# Altium integrated library Linear Technology Power Management Hot Swap Controllers.IntLib: 992 symbols (part 11 of 93)
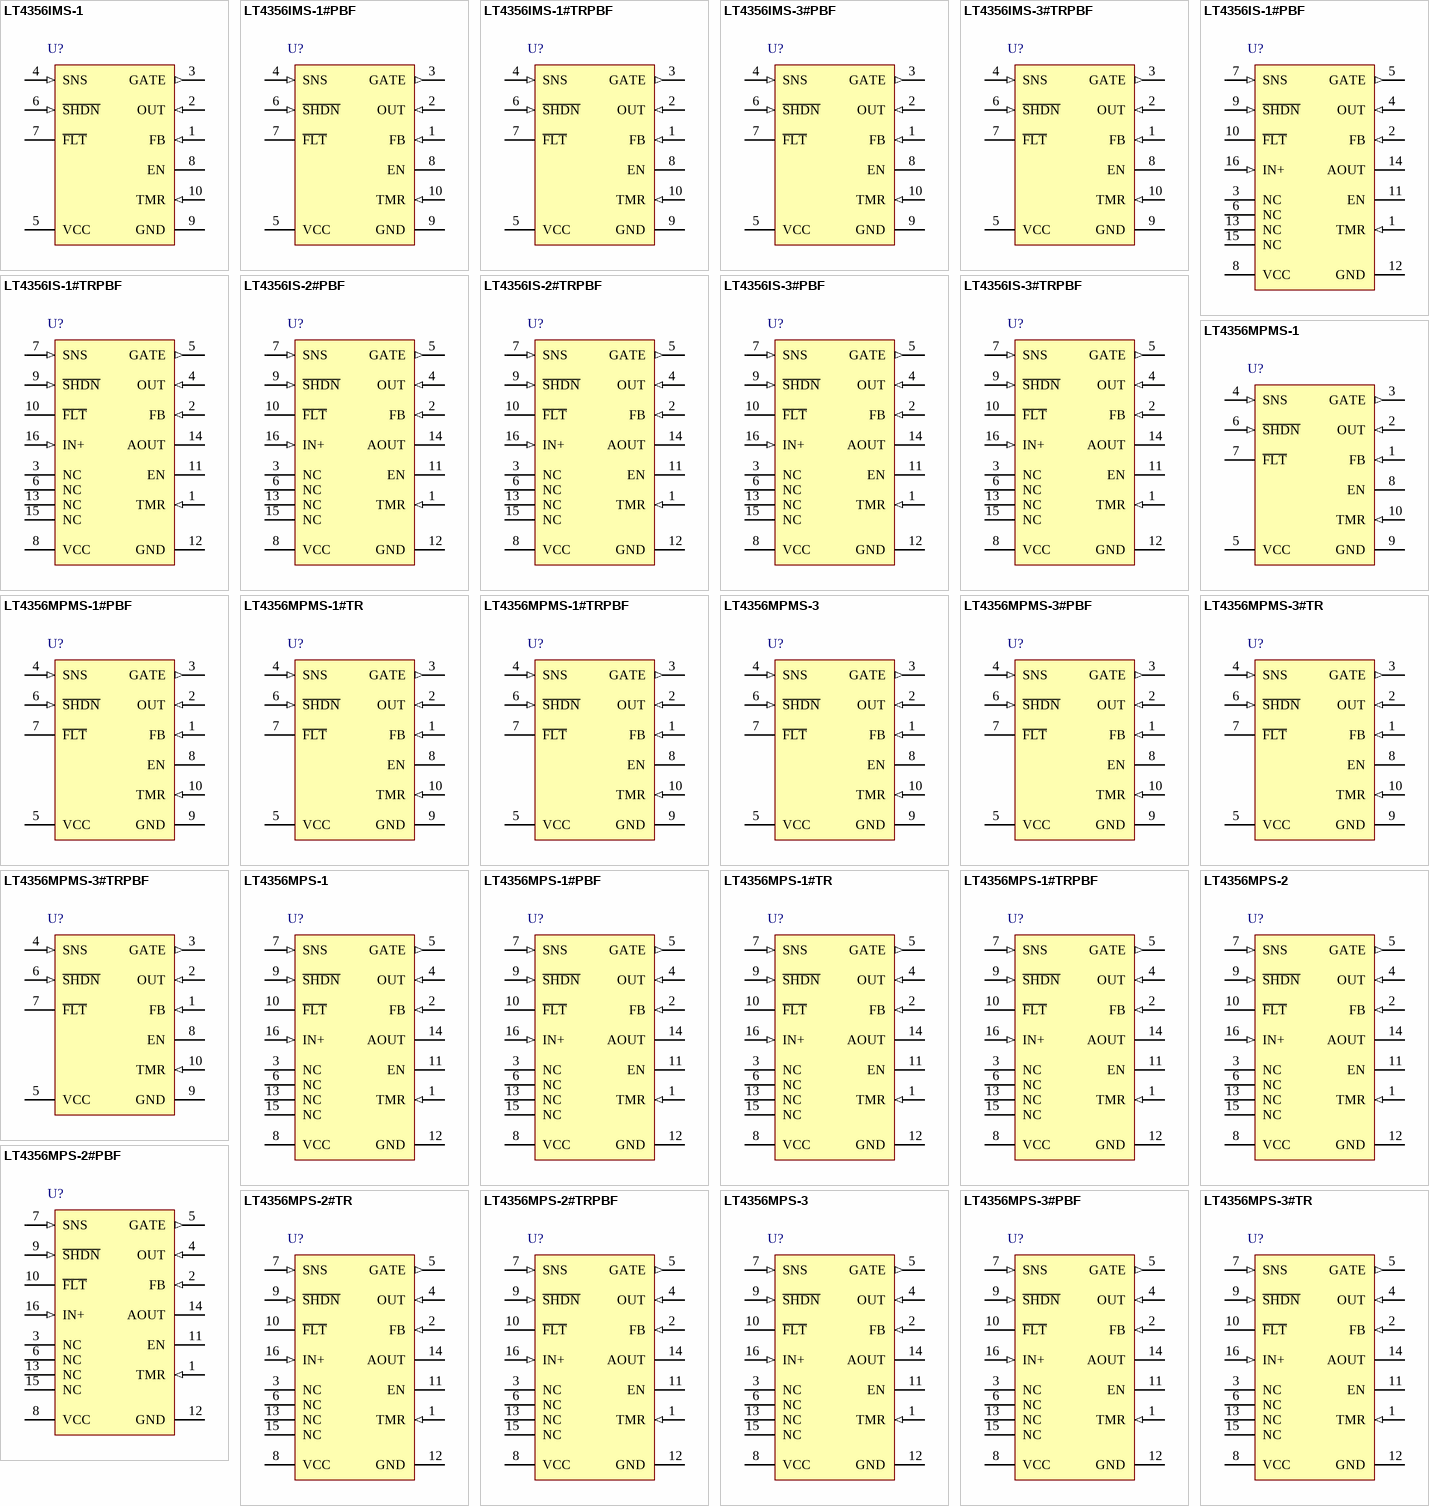
[diagram p47: symbols LT4356IMS-1 to LT4356MPS-3#TR]

## LT4356MPMS-1
designator U?
Surge Stopper, 4 to 80 V Vin, 10-pin SOP (MS-10), -55 to 125 degC; Manufacturer: Linear Technology; PartNumber: LT4356MPMS-1; Active Limiting: yes; Circuit Breaker Accuracy(%): 15; Circuit Breaker Threshold: 50 mV; Circuit Breakers(#): 1; Extended Temp: MP; Fast Comparator: no; In-Rush Current: Ramp; Vin Range: 4 to 80 V; DatasheetVersion: Rev. B; PackageVersion: Rev. E, 06/2010; PackageReference: MS-10; PackageDescription: 10-Pin Plastic MSOP, Body 3 x 3 mm, Pitch 0.5 mm; Foldback: yes; Power Good: no; RoHS: FALSE; Mounting Technology: Surface Mount; ComponentLink1Description: Manufacturer URL; ComponentLink1URL: http://www.linear.com/; ComponentLink2Description: Datasheet; ComponentLink2URL: http://cds.linear.com/docs/en/datasheet/4356mp12fb.pdf; ComponentLink3Description: Package Specification; ComponentLink3URL: http://cds.linear.com/docs/en/packaging/05081661_F_MS.pdf
footprint LT-MS-10_N (SOP, 10-Leads, Body 3.1x3.1mm, Pitch 0.5mm, IPC Medium Density)
footprint LT-MS-10_L (SOP, 10-Leads, Body 3.1x3.1mm, Pitch 0.5mm, IPC High Density)
footprint LT-MS-10_M (SOP, 10-Leads, Body 3.1x3.1mm, Pitch 0.5mm, IPC Low Density)
pins: 1 FB (in) "Voltage Regulator Feedback Input. Connect this pin to the center tap of the output resistive divider connected between the OUT pin and ground. During an overvoltage condition, the GATE pin is servoed to maintain a 1.25V (See Datasheet)", 2 OUT (in) "Output Voltage Sense Input. This pin senses the voltage at the source of the N-channel MOSFET and sets the fault timer current. When the OUT pin voltage reaches 0.7V away from VCC, the EN pin goes high impedance.", 3 GATE (out) "N-Channel MOSFET Gate Drive Output. The GATE pin is pulled up by an internal charge pump current source and clamped to 14V above the OUT pin. Both voltage and current amplifiers control the GATE pin to regulate the output (See Datasheet)", 4 SNS (in) "Current Sense Input. Connect this pin to the output of the current sense resistor. The current limit circuit controls the GATE pin to limit the sense voltage between VCC and SNS pins to 50mV. At the same time the sense (See Datasheet)", 5 VCC (power) "Positive Supply Voltage Input. The positive supply input ranges from 4V to 80V for normal operation. It can also be pulled below ground potential by up to 60V during a reverse battery condition, without damaging the part. (See Datasheet)", 6 ~{SHDN} (in) "Shutdown Control Input. The LT4356 can be shut down to a low current mode by pulling the S\H\D\N\ pin below 0.4V. Pull this pin above 2.1V or disconnect it and allow the internal current source to turn the part back on. The (See Datasheet)", 7 ~{FLT} (hiz) "Open-Collector Fault Output. This pin pulls low after the voltage at the TMR pin has reached the fault threshold of 1.25V. It indicates the pass transistor is about to turn off because either the supply voltage has stayed at (See Datasheet)", 8 EN (hiz) "Open-Collector Enable Output. The EN pin goes high impedance when the voltage at the OUT pin is above (VCC - 0.7V), indicating the external MOSFET is fully on. The state of the pin is latched until the OUT pin voltage resets (See Datasheet)", 9 GND (power) "Device Ground.", 10 TMR (in) "Fault Timer Input. Connect a capacitor between this pin and ground to set the times for early warning, fault and cool down periods. The current charging up this pin during fault conditions depends on the voltage difference (See Datasheet)"

## LT4356MPMS-1#PBF
designator U?
Surge Stopper, 4 to 80 V Vin, 10-pin SOP (MS-10), -55 to 125 degC, Pb-Free; Manufacturer: Linear Technology; PartNumber: LT4356MPMS-1#PBF; Active Limiting: yes; Circuit Breaker Accuracy(%): 15; Circuit Breaker Threshold: 50 mV; Circuit Breakers(#): 1; Extended Temp: MP; Fast Comparator: no; In-Rush Current: Ramp; Vin Range: 4 to 80 V; DatasheetVersion: Rev. B; PackageVersion: Rev. E, 06/2010; PackageReference: MS-10; PackageDescription: 10-Pin Plastic MSOP, Body 3 x 3 mm, Pitch 0.5 mm; Supplier 1: Digi-Key; Supplier Part Number 1: LT4356MPMS-1#PBF-ND; Supplier 2: Farnell; Supplier Part Number 2: 2295315; Supplier 3: Newark; Supplier Part Number 3: 24R6751; Foldback: yes; Power Good: no; RoHS: TRUE; Mounting Technology: Surface Mount; ComponentLink1Description: Manufacturer URL; ComponentLink1URL: http://www.linear.com/; ComponentLink2Description: Datasheet; ComponentLink2URL: http://cds.linear.com/docs/en/datasheet/4356mp12fb.pdf; ComponentLink3Description: Package Specification; ComponentLink3URL: http://cds.linear.com/docs/en/packaging/05081661_F_MS.pdf
footprint LT-MS-10_N (SOP, 10-Leads, Body 3.1x3.1mm, Pitch 0.5mm, IPC Medium Density)
footprint LT-MS-10_L (SOP, 10-Leads, Body 3.1x3.1mm, Pitch 0.5mm, IPC High Density)
footprint LT-MS-10_M (SOP, 10-Leads, Body 3.1x3.1mm, Pitch 0.5mm, IPC Low Density)
pins: 1 FB (in) "Voltage Regulator Feedback Input. Connect this pin to the center tap of the output resistive divider connected between the OUT pin and ground. During an overvoltage condition, the GATE pin is servoed to maintain a 1.25V (See Datasheet)", 2 OUT (in) "Output Voltage Sense Input. This pin senses the voltage at the source of the N-channel MOSFET and sets the fault timer current. When the OUT pin voltage reaches 0.7V away from VCC, the EN pin goes high impedance.", 3 GATE (out) "N-Channel MOSFET Gate Drive Output. The GATE pin is pulled up by an internal charge pump current source and clamped to 14V above the OUT pin. Both voltage and current amplifiers control the GATE pin to regulate the output (See Datasheet)", 4 SNS (in) "Current Sense Input. Connect this pin to the output of the current sense resistor. The current limit circuit controls the GATE pin to limit the sense voltage between VCC and SNS pins to 50mV. At the same time the sense (See Datasheet)", 5 VCC (power) "Positive Supply Voltage Input. The positive supply input ranges from 4V to 80V for normal operation. It can also be pulled below ground potential by up to 60V during a reverse battery condition, without damaging the part. (See Datasheet)", 6 ~{SHDN} (in) "Shutdown Control Input. The LT4356 can be shut down to a low current mode by pulling the S\H\D\N\ pin below 0.4V. Pull this pin above 2.1V or disconnect it and allow the internal current source to turn the part back on. The (See Datasheet)", 7 ~{FLT} (hiz) "Open-Collector Fault Output. This pin pulls low after the voltage at the TMR pin has reached the fault threshold of 1.25V. It indicates the pass transistor is about to turn off because either the supply voltage has stayed at (See Datasheet)", 8 EN (hiz) "Open-Collector Enable Output. The EN pin goes high impedance when the voltage at the OUT pin is above (VCC - 0.7V), indicating the external MOSFET is fully on. The state of the pin is latched until the OUT pin voltage resets (See Datasheet)", 9 GND (power) "Device Ground.", 10 TMR (in) "Fault Timer Input. Connect a capacitor between this pin and ground to set the times for early warning, fault and cool down periods. The current charging up this pin during fault conditions depends on the voltage difference (See Datasheet)"

## LT4356MPMS-1#TR
designator U?
Surge Stopper, 4 to 80 V Vin, 10-pin SOP (MS-10), -55 to 125 degC, Tape and Reel; Manufacturer: Linear Technology; PartNumber: LT4356MPMS-1#TR; Active Limiting: yes; Circuit Breaker Accuracy(%): 15; Circuit Breaker Threshold: 50 mV; Circuit Breakers(#): 1; Extended Temp: MP; Fast Comparator: no; In-Rush Current: Ramp; Vin Range: 4 to 80 V; DatasheetVersion: Rev. B; PackageVersion: Rev. E, 06/2010; PackageReference: MS-10; PackageDescription: 10-Pin Plastic MSOP, Body 3 x 3 mm, Pitch 0.5 mm; Foldback: yes; Packing: Tape and Reel; Power Good: no; RoHS: FALSE; Mounting Technology: Surface Mount; ComponentLink1Description: Manufacturer URL; ComponentLink1URL: http://www.linear.com/; ComponentLink2Description: Datasheet; ComponentLink2URL: http://cds.linear.com/docs/en/datasheet/4356mp12fb.pdf; ComponentLink3Description: Package Specification; ComponentLink3URL: http://cds.linear.com/docs/en/packaging/05081661_F_MS.pdf
footprint LT-MS-10_N (SOP, 10-Leads, Body 3.1x3.1mm, Pitch 0.5mm, IPC Medium Density)
footprint LT-MS-10_L (SOP, 10-Leads, Body 3.1x3.1mm, Pitch 0.5mm, IPC High Density)
footprint LT-MS-10_M (SOP, 10-Leads, Body 3.1x3.1mm, Pitch 0.5mm, IPC Low Density)
pins: 1 FB (in) "Voltage Regulator Feedback Input. Connect this pin to the center tap of the output resistive divider connected between the OUT pin and ground. During an overvoltage condition, the GATE pin is servoed to maintain a 1.25V (See Datasheet)", 2 OUT (in) "Output Voltage Sense Input. This pin senses the voltage at the source of the N-channel MOSFET and sets the fault timer current. When the OUT pin voltage reaches 0.7V away from VCC, the EN pin goes high impedance.", 3 GATE (out) "N-Channel MOSFET Gate Drive Output. The GATE pin is pulled up by an internal charge pump current source and clamped to 14V above the OUT pin. Both voltage and current amplifiers control the GATE pin to regulate the output (See Datasheet)", 4 SNS (in) "Current Sense Input. Connect this pin to the output of the current sense resistor. The current limit circuit controls the GATE pin to limit the sense voltage between VCC and SNS pins to 50mV. At the same time the sense (See Datasheet)", 5 VCC (power) "Positive Supply Voltage Input. The positive supply input ranges from 4V to 80V for normal operation. It can also be pulled below ground potential by up to 60V during a reverse battery condition, without damaging the part. (See Datasheet)", 6 ~{SHDN} (in) "Shutdown Control Input. The LT4356 can be shut down to a low current mode by pulling the S\H\D\N\ pin below 0.4V. Pull this pin above 2.1V or disconnect it and allow the internal current source to turn the part back on. The (See Datasheet)", 7 ~{FLT} (hiz) "Open-Collector Fault Output. This pin pulls low after the voltage at the TMR pin has reached the fault threshold of 1.25V. It indicates the pass transistor is about to turn off because either the supply voltage has stayed at (See Datasheet)", 8 EN (hiz) "Open-Collector Enable Output. The EN pin goes high impedance when the voltage at the OUT pin is above (VCC - 0.7V), indicating the external MOSFET is fully on. The state of the pin is latched until the OUT pin voltage resets (See Datasheet)", 9 GND (power) "Device Ground.", 10 TMR (in) "Fault Timer Input. Connect a capacitor between this pin and ground to set the times for early warning, fault and cool down periods. The current charging up this pin during fault conditions depends on the voltage difference (See Datasheet)"

## LT4356MPMS-1#TRPBF
designator U?
Surge Stopper, 4 to 80 V Vin, 10-pin SOP (MS-10), -55 to 125 degC, Pb-Free, Tape and Reel; Manufacturer: Linear Technology; PartNumber: LT4356MPMS-1#TRPBF; Active Limiting: yes; Circuit Breaker Accuracy(%): 15; Circuit Breaker Threshold: 50 mV; Circuit Breakers(#): 1; Extended Temp: MP; Fast Comparator: no; In-Rush Current: Ramp; Vin Range: 4 to 80 V; DatasheetVersion: Rev. B; PackageVersion: Rev. E, 06/2010; PackageReference: MS-10; PackageDescription: 10-Pin Plastic MSOP, Body 3 x 3 mm, Pitch 0.5 mm; Supplier 1: Digi-Key; Supplier Part Number 1: LT4356MPMS-1#TRPBF-ND; Supplier 2: Newark; Supplier Part Number 2: 24R6752; Foldback: yes; Packing: Tape and Reel; Power Good: no; RoHS: TRUE; Mounting Technology: Surface Mount; ComponentLink1Description: Manufacturer URL; ComponentLink1URL: http://www.linear.com/; ComponentLink2Description: Datasheet; ComponentLink2URL: http://cds.linear.com/docs/en/datasheet/4356mp12fb.pdf; ComponentLink3Description: Package Specification; ComponentLink3URL: http://cds.linear.com/docs/en/packaging/05081661_F_MS.pdf
footprint LT-MS-10_N (SOP, 10-Leads, Body 3.1x3.1mm, Pitch 0.5mm, IPC Medium Density)
footprint LT-MS-10_L (SOP, 10-Leads, Body 3.1x3.1mm, Pitch 0.5mm, IPC High Density)
footprint LT-MS-10_M (SOP, 10-Leads, Body 3.1x3.1mm, Pitch 0.5mm, IPC Low Density)
pins: 1 FB (in) "Voltage Regulator Feedback Input. Connect this pin to the center tap of the output resistive divider connected between the OUT pin and ground. During an overvoltage condition, the GATE pin is servoed to maintain a 1.25V (See Datasheet)", 2 OUT (in) "Output Voltage Sense Input. This pin senses the voltage at the source of the N-channel MOSFET and sets the fault timer current. When the OUT pin voltage reaches 0.7V away from VCC, the EN pin goes high impedance.", 3 GATE (out) "N-Channel MOSFET Gate Drive Output. The GATE pin is pulled up by an internal charge pump current source and clamped to 14V above the OUT pin. Both voltage and current amplifiers control the GATE pin to regulate the output (See Datasheet)", 4 SNS (in) "Current Sense Input. Connect this pin to the output of the current sense resistor. The current limit circuit controls the GATE pin to limit the sense voltage between VCC and SNS pins to 50mV. At the same time the sense (See Datasheet)", 5 VCC (power) "Positive Supply Voltage Input. The positive supply input ranges from 4V to 80V for normal operation. It can also be pulled below ground potential by up to 60V during a reverse battery condition, without damaging the part. (See Datasheet)", 6 ~{SHDN} (in) "Shutdown Control Input. The LT4356 can be shut down to a low current mode by pulling the S\H\D\N\ pin below 0.4V. Pull this pin above 2.1V or disconnect it and allow the internal current source to turn the part back on. The (See Datasheet)", 7 ~{FLT} (hiz) "Open-Collector Fault Output. This pin pulls low after the voltage at the TMR pin has reached the fault threshold of 1.25V. It indicates the pass transistor is about to turn off because either the supply voltage has stayed at (See Datasheet)", 8 EN (hiz) "Open-Collector Enable Output. The EN pin goes high impedance when the voltage at the OUT pin is above (VCC - 0.7V), indicating the external MOSFET is fully on. The state of the pin is latched until the OUT pin voltage resets (See Datasheet)", 9 GND (power) "Device Ground.", 10 TMR (in) "Fault Timer Input. Connect a capacitor between this pin and ground to set the times for early warning, fault and cool down periods. The current charging up this pin during fault conditions depends on the voltage difference (See Datasheet)"

## LT4356MPMS-3
designator U?
Surge Stopper with Fault Latchoff, 4 to 80 V Vin, 10-pin SOP (MS-10), -55 to 125 degC; Manufacturer: Linear Technology; PartNumber: LT4356MPMS-3; Active Limiting: yes; Circuit Breaker Accuracy(%): 10; Circuit Breaker Threshold: 50 mV; Circuit Breakers(#): 1; Extended Temp: C, I, H, MP; Fast Comparator: no; In-Rush Current: Ramp; Vin Range: 4 to 80 V; DatasheetVersion: Rev. B; PackageVersion: Rev. E, 06/2010; PackageReference: MS-10; PackageDescription: 10-Pin Plastic MSOP, Body 3 x 3 mm, Pitch 0.5 mm; Fault: no; Foldback: yes; Power Good: no; Reset: no; RoHS: FALSE; Mounting Technology: Surface Mount; ComponentLink1Description: Manufacturer URL; ComponentLink1URL: http://www.linear.com/; ComponentLink2Description: Datasheet; ComponentLink2URL: http://cds.linear.com/docs/en/datasheet/43563fb.pdf; ComponentLink3Description: Package Specification; ComponentLink3URL: http://cds.linear.com/docs/en/packaging/05081661_F_MS.pdf
footprint LT-MS-10_N (SOP, 10-Leads, Body 3.1x3.1mm, Pitch 0.5mm, IPC Medium Density)
footprint LT-MS-10_L (SOP, 10-Leads, Body 3.1x3.1mm, Pitch 0.5mm, IPC High Density)
footprint LT-MS-10_M (SOP, 10-Leads, Body 3.1x3.1mm, Pitch 0.5mm, IPC Low Density)
pins: 1 FB (in) "FB: Voltage Regulator Feedback Input. Connect this pin to the center tap of the output resistive divider connected between the OUT pin and ground. During an overvoltage condition, the GATE pin is servoed to maintain a 1.25V (See Datasheet)", 2 OUT (in) "OUT: Output Voltage Sense Input. This pin senses the voltage at the source of the N-channel MOSFET and sets the fault timer current. When the OUT pin voltage reaches 0.7V away from VCC, the EN pin goes high impedance.", 3 GATE (out) "GATE: N-Channel MOSFET Gate Drive Output. The GATE pin is pulled up by an internal charge pump current source and clamped to 14V above the OUT pin. Both voltage and current amplifiers control the GATE pin to regulate the (See Datasheet)", 4 SNS (in) "SNS: Current Sense Input. Connect this pin to the output of the current sense resistor. The current limit circuit controls the GATE pin to limit the sense voltage between VCC and SNS pins to 50mV. At the same time the sense (See Datasheet)", 5 VCC (power) "VCC: Positive Supply Voltage Input. The positive supply input ranges from 4V to 80V for normal operation. It can also be pulled below ground potential by up to 60V during a reverse battery condition, without damaging the (See Datasheet)", 6 ~{SHDN} (in) "S\H\D\N\: Shutdown Control Input. The LT4356 can be shut down to a low current mode by pulling the S\H\D\N\ pin below 0.4V. Pull this pin above 2.1V or disconnect it and allow the internal current source to turn the part (See Datasheet)", 7 ~{FLT} (oc) "F\L\T\: Open-Collector Fault Output. This pin pulls low after the voltage at the TMR pin has reached the fault threshold of 1.25V. It indicates the pass transistor is about to turn off because either the supply voltage has (See Datasheet)", 8 EN (hiz) "EN: Open-Collector Enable Output. The EN pin goes high impedance when the voltage at the OUT pin is above (VCC - 0.7V), indicating the external MOSFET is fully on. The state of the pin is latched until the OUT pin voltage (See Datasheet)", 9 GND (power) "GND: Device Ground.", 10 TMR (in) "TMR: Fault Timer Input. Connect a capacitor between this pin and ground to set the times for early warning, fault and cool down periods. The current charging up this pin during fault conditions depends on the voltage (See Datasheet)"

## LT4356MPMS-3#PBF
designator U?
Surge Stopper with Fault Latchoff, 4 to 80 V Vin, 10-pin SOP (MS-10), -55 to 125 degC, Pb-Free; Manufacturer: Linear Technology; PartNumber: LT4356MPMS-3#PBF; Active Limiting: yes; Circuit Breaker Accuracy(%): 10; Circuit Breaker Threshold: 50 mV; Circuit Breakers(#): 1; Extended Temp: C, I, H, MP; Fast Comparator: no; In-Rush Current: Ramp; Vin Range: 4 to 80 V; DatasheetVersion: Rev. B; PackageVersion: Rev. E, 06/2010; PackageReference: MS-10; PackageDescription: 10-Pin Plastic MSOP, Body 3 x 3 mm, Pitch 0.5 mm; Supplier 1: Digi-Key; Supplier Part Number 1: LT4356MPMS-3#PBF-ND; Supplier 2: Newark; Supplier Part Number 2: 27W9585; Fault: no; Foldback: yes; Power Good: no; Reset: no; RoHS: TRUE; Mounting Technology: Surface Mount; ComponentLink1Description: Manufacturer URL; ComponentLink1URL: http://www.linear.com/; ComponentLink2Description: Datasheet; ComponentLink2URL: http://cds.linear.com/docs/en/datasheet/43563fb.pdf; ComponentLink3Description: Package Specification; ComponentLink3URL: http://cds.linear.com/docs/en/packaging/05081661_F_MS.pdf
footprint LT-MS-10_N (SOP, 10-Leads, Body 3.1x3.1mm, Pitch 0.5mm, IPC Medium Density)
footprint LT-MS-10_L (SOP, 10-Leads, Body 3.1x3.1mm, Pitch 0.5mm, IPC High Density)
footprint LT-MS-10_M (SOP, 10-Leads, Body 3.1x3.1mm, Pitch 0.5mm, IPC Low Density)
pins: 1 FB (in) "FB: Voltage Regulator Feedback Input. Connect this pin to the center tap of the output resistive divider connected between the OUT pin and ground. During an overvoltage condition, the GATE pin is servoed to maintain a 1.25V (See Datasheet)", 2 OUT (in) "OUT: Output Voltage Sense Input. This pin senses the voltage at the source of the N-channel MOSFET and sets the fault timer current. When the OUT pin voltage reaches 0.7V away from VCC, the EN pin goes high impedance.", 3 GATE (out) "GATE: N-Channel MOSFET Gate Drive Output. The GATE pin is pulled up by an internal charge pump current source and clamped to 14V above the OUT pin. Both voltage and current amplifiers control the GATE pin to regulate the (See Datasheet)", 4 SNS (in) "SNS: Current Sense Input. Connect this pin to the output of the current sense resistor. The current limit circuit controls the GATE pin to limit the sense voltage between VCC and SNS pins to 50mV. At the same time the sense (See Datasheet)", 5 VCC (power) "VCC: Positive Supply Voltage Input. The positive supply input ranges from 4V to 80V for normal operation. It can also be pulled below ground potential by up to 60V during a reverse battery condition, without damaging the (See Datasheet)", 6 ~{SHDN} (in) "S\H\D\N\: Shutdown Control Input. The LT4356 can be shut down to a low current mode by pulling the S\H\D\N\ pin below 0.4V. Pull this pin above 2.1V or disconnect it and allow the internal current source to turn the part (See Datasheet)", 7 ~{FLT} (oc) "F\L\T\: Open-Collector Fault Output. This pin pulls low after the voltage at the TMR pin has reached the fault threshold of 1.25V. It indicates the pass transistor is about to turn off because either the supply voltage has (See Datasheet)", 8 EN (hiz) "EN: Open-Collector Enable Output. The EN pin goes high impedance when the voltage at the OUT pin is above (VCC - 0.7V), indicating the external MOSFET is fully on. The state of the pin is latched until the OUT pin voltage (See Datasheet)", 9 GND (power) "GND: Device Ground.", 10 TMR (in) "TMR: Fault Timer Input. Connect a capacitor between this pin and ground to set the times for early warning, fault and cool down periods. The current charging up this pin during fault conditions depends on the voltage (See Datasheet)"

## LT4356MPMS-3#TR
designator U?
Surge Stopper with Fault Latchoff, 4 to 80 V Vin, 10-pin SOP (MS-10), -55 to 125 degC, Tape and Reel; Manufacturer: Linear Technology; PartNumber: LT4356MPMS-3#TR; Active Limiting: yes; Circuit Breaker Accuracy(%): 10; Circuit Breaker Threshold: 50 mV; Circuit Breakers(#): 1; Extended Temp: C, I, H, MP; Fast Comparator: no; In-Rush Current: Ramp; Vin Range: 4 to 80 V; DatasheetVersion: Rev. B; PackageVersion: Rev. E, 06/2010; PackageReference: MS-10; PackageDescription: 10-Pin Plastic MSOP, Body 3 x 3 mm, Pitch 0.5 mm; Fault: no; Foldback: yes; Packing: Tape and Reel; Power Good: no; Reset: no; RoHS: FALSE; Mounting Technology: Surface Mount; ComponentLink1Description: Manufacturer URL; ComponentLink1URL: http://www.linear.com/; ComponentLink2Description: Datasheet; ComponentLink2URL: http://cds.linear.com/docs/en/datasheet/43563fb.pdf; ComponentLink3Description: Package Specification; ComponentLink3URL: http://cds.linear.com/docs/en/packaging/05081661_F_MS.pdf
footprint LT-MS-10_N (SOP, 10-Leads, Body 3.1x3.1mm, Pitch 0.5mm, IPC Medium Density)
footprint LT-MS-10_L (SOP, 10-Leads, Body 3.1x3.1mm, Pitch 0.5mm, IPC High Density)
footprint LT-MS-10_M (SOP, 10-Leads, Body 3.1x3.1mm, Pitch 0.5mm, IPC Low Density)
pins: 1 FB (in) "FB: Voltage Regulator Feedback Input. Connect this pin to the center tap of the output resistive divider connected between the OUT pin and ground. During an overvoltage condition, the GATE pin is servoed to maintain a 1.25V (See Datasheet)", 2 OUT (in) "OUT: Output Voltage Sense Input. This pin senses the voltage at the source of the N-channel MOSFET and sets the fault timer current. When the OUT pin voltage reaches 0.7V away from VCC, the EN pin goes high impedance.", 3 GATE (out) "GATE: N-Channel MOSFET Gate Drive Output. The GATE pin is pulled up by an internal charge pump current source and clamped to 14V above the OUT pin. Both voltage and current amplifiers control the GATE pin to regulate the (See Datasheet)", 4 SNS (in) "SNS: Current Sense Input. Connect this pin to the output of the current sense resistor. The current limit circuit controls the GATE pin to limit the sense voltage between VCC and SNS pins to 50mV. At the same time the sense (See Datasheet)", 5 VCC (power) "VCC: Positive Supply Voltage Input. The positive supply input ranges from 4V to 80V for normal operation. It can also be pulled below ground potential by up to 60V during a reverse battery condition, without damaging the (See Datasheet)", 6 ~{SHDN} (in) "S\H\D\N\: Shutdown Control Input. The LT4356 can be shut down to a low current mode by pulling the S\H\D\N\ pin below 0.4V. Pull this pin above 2.1V or disconnect it and allow the internal current source to turn the part (See Datasheet)", 7 ~{FLT} (oc) "F\L\T\: Open-Collector Fault Output. This pin pulls low after the voltage at the TMR pin has reached the fault threshold of 1.25V. It indicates the pass transistor is about to turn off because either the supply voltage has (See Datasheet)", 8 EN (hiz) "EN: Open-Collector Enable Output. The EN pin goes high impedance when the voltage at the OUT pin is above (VCC - 0.7V), indicating the external MOSFET is fully on. The state of the pin is latched until the OUT pin voltage (See Datasheet)", 9 GND (power) "GND: Device Ground.", 10 TMR (in) "TMR: Fault Timer Input. Connect a capacitor between this pin and ground to set the times for early warning, fault and cool down periods. The current charging up this pin during fault conditions depends on the voltage (See Datasheet)"

## LT4356MPMS-3#TRPBF
designator U?
Surge Stopper with Fault Latchoff, 4 to 80 V Vin, 10-pin SOP (MS-10), -55 to 125 degC, Pb-Free, Tape and Reel; Manufacturer: Linear Technology; PartNumber: LT4356MPMS-3#TRPBF; Active Limiting: yes; Circuit Breaker Accuracy(%): 10; Circuit Breaker Threshold: 50 mV; Circuit Breakers(#): 1; Extended Temp: C, I, H, MP; Fast Comparator: no; In-Rush Current: Ramp; Vin Range: 4 to 80 V; DatasheetVersion: Rev. B; PackageVersion: Rev. E, 06/2010; PackageReference: MS-10; PackageDescription: 10-Pin Plastic MSOP, Body 3 x 3 mm, Pitch 0.5 mm; Supplier 1: Digi-Key; Supplier Part Number 1: LT4356MPMS-3#TRPBF-ND; Supplier 2: Newark; Supplier Part Number 2: 27W9586; Fault: no; Foldback: yes; Packing: Tape and Reel; Power Good: no; Reset: no; RoHS: TRUE; Mounting Technology: Surface Mount; ComponentLink1Description: Manufacturer URL; ComponentLink1URL: http://www.linear.com/; ComponentLink2Description: Datasheet; ComponentLink2URL: http://cds.linear.com/docs/en/datasheet/43563fb.pdf; ComponentLink3Description: Package Specification; ComponentLink3URL: http://cds.linear.com/docs/en/packaging/05081661_F_MS.pdf
footprint LT-MS-10_N (SOP, 10-Leads, Body 3.1x3.1mm, Pitch 0.5mm, IPC Medium Density)
footprint LT-MS-10_L (SOP, 10-Leads, Body 3.1x3.1mm, Pitch 0.5mm, IPC High Density)
footprint LT-MS-10_M (SOP, 10-Leads, Body 3.1x3.1mm, Pitch 0.5mm, IPC Low Density)
pins: 1 FB (in) "FB: Voltage Regulator Feedback Input. Connect this pin to the center tap of the output resistive divider connected between the OUT pin and ground. During an overvoltage condition, the GATE pin is servoed to maintain a 1.25V (See Datasheet)", 2 OUT (in) "OUT: Output Voltage Sense Input. This pin senses the voltage at the source of the N-channel MOSFET and sets the fault timer current. When the OUT pin voltage reaches 0.7V away from VCC, the EN pin goes high impedance.", 3 GATE (out) "GATE: N-Channel MOSFET Gate Drive Output. The GATE pin is pulled up by an internal charge pump current source and clamped to 14V above the OUT pin. Both voltage and current amplifiers control the GATE pin to regulate the (See Datasheet)", 4 SNS (in) "SNS: Current Sense Input. Connect this pin to the output of the current sense resistor. The current limit circuit controls the GATE pin to limit the sense voltage between VCC and SNS pins to 50mV. At the same time the sense (See Datasheet)", 5 VCC (power) "VCC: Positive Supply Voltage Input. The positive supply input ranges from 4V to 80V for normal operation. It can also be pulled below ground potential by up to 60V during a reverse battery condition, without damaging the (See Datasheet)", 6 ~{SHDN} (in) "S\H\D\N\: Shutdown Control Input. The LT4356 can be shut down to a low current mode by pulling the S\H\D\N\ pin below 0.4V. Pull this pin above 2.1V or disconnect it and allow the internal current source to turn the part (See Datasheet)", 7 ~{FLT} (oc) "F\L\T\: Open-Collector Fault Output. This pin pulls low after the voltage at the TMR pin has reached the fault threshold of 1.25V. It indicates the pass transistor is about to turn off because either the supply voltage has (See Datasheet)", 8 EN (hiz) "EN: Open-Collector Enable Output. The EN pin goes high impedance when the voltage at the OUT pin is above (VCC - 0.7V), indicating the external MOSFET is fully on. The state of the pin is latched until the OUT pin voltage (See Datasheet)", 9 GND (power) "GND: Device Ground.", 10 TMR (in) "TMR: Fault Timer Input. Connect a capacitor between this pin and ground to set the times for early warning, fault and cool down periods. The current charging up this pin during fault conditions depends on the voltage (See Datasheet)"

## LT4356MPS-1
designator U?
Surge Stopper, 4 to 80 V Vin, 16-pin SOP (S-16), -55 to 125 degC; Manufacturer: Linear Technology; PartNumber: LT4356MPS-1; Active Limiting: yes; Circuit Breaker Accuracy(%): 15; Circuit Breaker Threshold: 50 mV; Circuit Breakers(#): 1; Extended Temp: MP; Fast Comparator: no; In-Rush Current: Ramp; Vin Range: 4 to 80 V; DatasheetVersion: Rev. B; PackageVersion: Rev. G, 05/2012; PackageReference: S-16; PackageDescription: 16-Pin Plastic Small Outline, Body 9.9 x 3.9 mm, Pitch 1.27 mm; Supplier 1: Newark; Supplier Part Number 1: 24R6753; Foldback: yes; Power Good: no; RoHS: FALSE; Mounting Technology: Surface Mount; ComponentLink1Description: Manufacturer URL; ComponentLink1URL: http://www.linear.com/; ComponentLink2Description: Datasheet; ComponentLink2URL: http://cds.linear.com/docs/en/datasheet/4356mp12fb.pdf; ComponentLink3Description: Package Specification; ComponentLink3URL: http://cds.linear.com/docs/en/packaging/S16%2005-08-1610%20Rev%20G.pdf
footprint LT-S-16_N (SOP, 16-Leads, Body 10x4mm, Pitch 1.27mm, IPC Medium Density)
footprint LT-S-16_L (SOP, 16-Leads, Body 10x4mm, Pitch 1.27mm, IPC High Density)
footprint LT-S-16_M (SOP, 16-Leads, Body 10x4mm, Pitch 1.27mm, IPC Low Density)
pins: 1 TMR (in) "Fault Timer Input. Connect a capacitor between this pin and ground to set the times for early warning, fault and cooldown periods. The current charging up this pin during fault conditions depends on the voltage difference (See Datasheet)", 2 FB (in) "Voltage Regulator Feedback Input. Connect this pin to the center tap of the output resistive divider connected between the OUT pin and ground. During an overvoltage condition, the GATE pin is servoed to maintain a 1.25V (See Datasheet)", 3 NC, 4 OUT (in) "Output Voltage Sense Input. This pin senses the voltage at the source of the N-channel MOSFET and sets the fault timer current. When the OUT pin voltage reaches 0.7V away from VCC, the EN pin goes high impedance.", 5 GATE (out) "N-channel MOSFET Gate Drive Output. The GATE pin is pulled up by an internal charge pump current source and clamped to 14V above the OUT pin. Both voltage and current amplifiers control the GATE pin to regulate the output (See Datasheet)", 6 NC, 7 SNS (in) "Current Sense Input. Connect this pin to the output of the current sense resistor. The current limit circuit controls the GATE pin to limit the sense voltage between VCC and SNS pins to 50mV. At the same time the sense (See Datasheet)", 8 VCC (power) "Positive Supply Voltage Input. The positive supply input ranges from 4V to 80V for normal operation. It can also be pulled below ground potential by up to 60V during a reverse battery condition, without damaging the part. (See Datasheet)", 9 ~{SHDN} (in) "Shutdown Control Input. The LT4356 can be shut down to a low current mode by pulling the S\H\D\N\ pin below 0.4V. Pull this pin above 2.1V or disconnect it and allow the internal current source to turn the part back on. The (See Datasheet)", 10 ~{FLT} (hiz) "Open-Collector Fault Output. This pin pulls low after the voltage at the TMR pin has reached the fault threshold of 1.25V. It indicates the pass transistor is about to turn off because either the supply voltage has stayed at (See Datasheet)", 11 EN (hiz) "Open-Collector Enable Output. The EN pin goes high impedance when the voltage at the OUT pin is above (VCC - 0.7V), indicating the external MOSFET is fully on. The state of the pin is latched until the OUT pin voltage resets (See Datasheet)", 12 GND (power) "Device Ground.", 13 NC, 14 AOUT (oc) "Amplifier Output. Open collector output of the auxiliary amplifier. It is capable of sinking up to 2mA from 80V. The negative input of the amplifier is internally connected to a 1.25V reference.", 15 NC, 16 IN+ (in) "Positive Input of the Auxiliary Amplifier. This amplifier can be used as a level detection comparator with external hysteresis or linear regulator controlling an external PNP transistor. This pin is clamped internally to 7V. (See Datasheet)"

## LT4356MPS-1#PBF
designator U?
Surge Stopper, 4 to 80 V Vin, 16-pin SOP (S-16), -55 to 125 degC, Pb-Free; Manufacturer: Linear Technology; PartNumber: LT4356MPS-1#PBF; Active Limiting: yes; Circuit Breaker Accuracy(%): 15; Circuit Breaker Threshold: 50 mV; Circuit Breakers(#): 1; Extended Temp: MP; Fast Comparator: no; In-Rush Current: Ramp; Vin Range: 4 to 80 V; DatasheetVersion: Rev. B; PackageVersion: Rev. G, 05/2012; PackageReference: S-16; PackageDescription: 16-Pin Plastic Small Outline, Body 9.9 x 3.9 mm, Pitch 1.27 mm; Supplier 1: Digi-Key; Supplier Part Number 1: LT4356MPS-1#PBF-ND; Supplier 2: Newark; Supplier Part Number 2: 24R6754; Foldback: yes; Power Good: no; RoHS: TRUE; Mounting Technology: Surface Mount; ComponentLink1Description: Manufacturer URL; ComponentLink1URL: http://www.linear.com/; ComponentLink2Description: Datasheet; ComponentLink2URL: http://cds.linear.com/docs/en/datasheet/4356mp12fb.pdf; ComponentLink3Description: Package Specification; ComponentLink3URL: http://cds.linear.com/docs/en/packaging/S16%2005-08-1610%20Rev%20G.pdf
footprint LT-S-16_N (SOP, 16-Leads, Body 10x4mm, Pitch 1.27mm, IPC Medium Density)
footprint LT-S-16_L (SOP, 16-Leads, Body 10x4mm, Pitch 1.27mm, IPC High Density)
footprint LT-S-16_M (SOP, 16-Leads, Body 10x4mm, Pitch 1.27mm, IPC Low Density)
pins: 1 TMR (in) "Fault Timer Input. Connect a capacitor between this pin and ground to set the times for early warning, fault and cooldown periods. The current charging up this pin during fault conditions depends on the voltage difference (See Datasheet)", 2 FB (in) "Voltage Regulator Feedback Input. Connect this pin to the center tap of the output resistive divider connected between the OUT pin and ground. During an overvoltage condition, the GATE pin is servoed to maintain a 1.25V (See Datasheet)", 3 NC, 4 OUT (in) "Output Voltage Sense Input. This pin senses the voltage at the source of the N-channel MOSFET and sets the fault timer current. When the OUT pin voltage reaches 0.7V away from VCC, the EN pin goes high impedance.", 5 GATE (out) "N-channel MOSFET Gate Drive Output. The GATE pin is pulled up by an internal charge pump current source and clamped to 14V above the OUT pin. Both voltage and current amplifiers control the GATE pin to regulate the output (See Datasheet)", 6 NC, 7 SNS (in) "Current Sense Input. Connect this pin to the output of the current sense resistor. The current limit circuit controls the GATE pin to limit the sense voltage between VCC and SNS pins to 50mV. At the same time the sense (See Datasheet)", 8 VCC (power) "Positive Supply Voltage Input. The positive supply input ranges from 4V to 80V for normal operation. It can also be pulled below ground potential by up to 60V during a reverse battery condition, without damaging the part. (See Datasheet)", 9 ~{SHDN} (in) "Shutdown Control Input. The LT4356 can be shut down to a low current mode by pulling the S\H\D\N\ pin below 0.4V. Pull this pin above 2.1V or disconnect it and allow the internal current source to turn the part back on. The (See Datasheet)", 10 ~{FLT} (hiz) "Open-Collector Fault Output. This pin pulls low after the voltage at the TMR pin has reached the fault threshold of 1.25V. It indicates the pass transistor is about to turn off because either the supply voltage has stayed at (See Datasheet)", 11 EN (hiz) "Open-Collector Enable Output. The EN pin goes high impedance when the voltage at the OUT pin is above (VCC - 0.7V), indicating the external MOSFET is fully on. The state of the pin is latched until the OUT pin voltage resets (See Datasheet)", 12 GND (power) "Device Ground.", 13 NC, 14 AOUT (oc) "Amplifier Output. Open collector output of the auxiliary amplifier. It is capable of sinking up to 2mA from 80V. The negative input of the amplifier is internally connected to a 1.25V reference.", 15 NC, 16 IN+ (in) "Positive Input of the Auxiliary Amplifier. This amplifier can be used as a level detection comparator with external hysteresis or linear regulator controlling an external PNP transistor. This pin is clamped internally to 7V. (See Datasheet)"

## LT4356MPS-1#TR
designator U?
Surge Stopper, 4 to 80 V Vin, 16-pin SOP (S-16), -55 to 125 degC, Tape and Reel; Manufacturer: Linear Technology; PartNumber: LT4356MPS-1#TR; Active Limiting: yes; Circuit Breaker Accuracy(%): 15; Circuit Breaker Threshold: 50 mV; Circuit Breakers(#): 1; Extended Temp: MP; Fast Comparator: no; In-Rush Current: Ramp; Vin Range: 4 to 80 V; DatasheetVersion: Rev. B; PackageVersion: Rev. G, 05/2012; PackageReference: S-16; PackageDescription: 16-Pin Plastic Small Outline, Body 9.9 x 3.9 mm, Pitch 1.27 mm; Foldback: yes; Packing: Tape and Reel; Power Good: no; RoHS: FALSE; Mounting Technology: Surface Mount; ComponentLink1Description: Manufacturer URL; ComponentLink1URL: http://www.linear.com/; ComponentLink2Description: Datasheet; ComponentLink2URL: http://cds.linear.com/docs/en/datasheet/4356mp12fb.pdf; ComponentLink3Description: Package Specification; ComponentLink3URL: http://cds.linear.com/docs/en/packaging/S16%2005-08-1610%20Rev%20G.pdf
footprint LT-S-16_N (SOP, 16-Leads, Body 10x4mm, Pitch 1.27mm, IPC Medium Density)
footprint LT-S-16_L (SOP, 16-Leads, Body 10x4mm, Pitch 1.27mm, IPC High Density)
footprint LT-S-16_M (SOP, 16-Leads, Body 10x4mm, Pitch 1.27mm, IPC Low Density)
pins: 1 TMR (in) "Fault Timer Input. Connect a capacitor between this pin and ground to set the times for early warning, fault and cooldown periods. The current charging up this pin during fault conditions depends on the voltage difference (See Datasheet)", 2 FB (in) "Voltage Regulator Feedback Input. Connect this pin to the center tap of the output resistive divider connected between the OUT pin and ground. During an overvoltage condition, the GATE pin is servoed to maintain a 1.25V (See Datasheet)", 3 NC, 4 OUT (in) "Output Voltage Sense Input. This pin senses the voltage at the source of the N-channel MOSFET and sets the fault timer current. When the OUT pin voltage reaches 0.7V away from VCC, the EN pin goes high impedance.", 5 GATE (out) "N-channel MOSFET Gate Drive Output. The GATE pin is pulled up by an internal charge pump current source and clamped to 14V above the OUT pin. Both voltage and current amplifiers control the GATE pin to regulate the output (See Datasheet)", 6 NC, 7 SNS (in) "Current Sense Input. Connect this pin to the output of the current sense resistor. The current limit circuit controls the GATE pin to limit the sense voltage between VCC and SNS pins to 50mV. At the same time the sense (See Datasheet)", 8 VCC (power) "Positive Supply Voltage Input. The positive supply input ranges from 4V to 80V for normal operation. It can also be pulled below ground potential by up to 60V during a reverse battery condition, without damaging the part. (See Datasheet)", 9 ~{SHDN} (in) "Shutdown Control Input. The LT4356 can be shut down to a low current mode by pulling the S\H\D\N\ pin below 0.4V. Pull this pin above 2.1V or disconnect it and allow the internal current source to turn the part back on. The (See Datasheet)", 10 ~{FLT} (hiz) "Open-Collector Fault Output. This pin pulls low after the voltage at the TMR pin has reached the fault threshold of 1.25V. It indicates the pass transistor is about to turn off because either the supply voltage has stayed at (See Datasheet)", 11 EN (hiz) "Open-Collector Enable Output. The EN pin goes high impedance when the voltage at the OUT pin is above (VCC - 0.7V), indicating the external MOSFET is fully on. The state of the pin is latched until the OUT pin voltage resets (See Datasheet)", 12 GND (power) "Device Ground.", 13 NC, 14 AOUT (oc) "Amplifier Output. Open collector output of the auxiliary amplifier. It is capable of sinking up to 2mA from 80V. The negative input of the amplifier is internally connected to a 1.25V reference.", 15 NC, 16 IN+ (in) "Positive Input of the Auxiliary Amplifier. This amplifier can be used as a level detection comparator with external hysteresis or linear regulator controlling an external PNP transistor. This pin is clamped internally to 7V. (See Datasheet)"

## LT4356MPS-1#TRPBF
designator U?
Surge Stopper, 4 to 80 V Vin, 16-pin SOP (S-16), -55 to 125 degC, Pb-Free, Tape and Reel; Manufacturer: Linear Technology; PartNumber: LT4356MPS-1#TRPBF; Active Limiting: yes; Circuit Breaker Accuracy(%): 15; Circuit Breaker Threshold: 50 mV; Circuit Breakers(#): 1; Extended Temp: MP; Fast Comparator: no; In-Rush Current: Ramp; Vin Range: 4 to 80 V; DatasheetVersion: Rev. B; PackageVersion: Rev. G, 05/2012; PackageReference: S-16; PackageDescription: 16-Pin Plastic Small Outline, Body 9.9 x 3.9 mm, Pitch 1.27 mm; Supplier 1: Digi-Key; Supplier Part Number 1: LT4356MPS-1#TRPBF-ND; Foldback: yes; Packing: Tape and Reel; Power Good: no; RoHS: TRUE; Mounting Technology: Surface Mount; ComponentLink1Description: Manufacturer URL; ComponentLink1URL: http://www.linear.com/; ComponentLink2Description: Datasheet; ComponentLink2URL: http://cds.linear.com/docs/en/datasheet/4356mp12fb.pdf; ComponentLink3Description: Package Specification; ComponentLink3URL: http://cds.linear.com/docs/en/packaging/S16%2005-08-1610%20Rev%20G.pdf
footprint LT-S-16_N (SOP, 16-Leads, Body 10x4mm, Pitch 1.27mm, IPC Medium Density)
footprint LT-S-16_L (SOP, 16-Leads, Body 10x4mm, Pitch 1.27mm, IPC High Density)
footprint LT-S-16_M (SOP, 16-Leads, Body 10x4mm, Pitch 1.27mm, IPC Low Density)
pins: 1 TMR (in) "Fault Timer Input. Connect a capacitor between this pin and ground to set the times for early warning, fault and cooldown periods. The current charging up this pin during fault conditions depends on the voltage difference (See Datasheet)", 2 FB (in) "Voltage Regulator Feedback Input. Connect this pin to the center tap of the output resistive divider connected between the OUT pin and ground. During an overvoltage condition, the GATE pin is servoed to maintain a 1.25V (See Datasheet)", 3 NC, 4 OUT (in) "Output Voltage Sense Input. This pin senses the voltage at the source of the N-channel MOSFET and sets the fault timer current. When the OUT pin voltage reaches 0.7V away from VCC, the EN pin goes high impedance.", 5 GATE (out) "N-channel MOSFET Gate Drive Output. The GATE pin is pulled up by an internal charge pump current source and clamped to 14V above the OUT pin. Both voltage and current amplifiers control the GATE pin to regulate the output (See Datasheet)", 6 NC, 7 SNS (in) "Current Sense Input. Connect this pin to the output of the current sense resistor. The current limit circuit controls the GATE pin to limit the sense voltage between VCC and SNS pins to 50mV. At the same time the sense (See Datasheet)", 8 VCC (power) "Positive Supply Voltage Input. The positive supply input ranges from 4V to 80V for normal operation. It can also be pulled below ground potential by up to 60V during a reverse battery condition, without damaging the part. (See Datasheet)", 9 ~{SHDN} (in) "Shutdown Control Input. The LT4356 can be shut down to a low current mode by pulling the S\H\D\N\ pin below 0.4V. Pull this pin above 2.1V or disconnect it and allow the internal current source to turn the part back on. The (See Datasheet)", 10 ~{FLT} (hiz) "Open-Collector Fault Output. This pin pulls low after the voltage at the TMR pin has reached the fault threshold of 1.25V. It indicates the pass transistor is about to turn off because either the supply voltage has stayed at (See Datasheet)", 11 EN (hiz) "Open-Collector Enable Output. The EN pin goes high impedance when the voltage at the OUT pin is above (VCC - 0.7V), indicating the external MOSFET is fully on. The state of the pin is latched until the OUT pin voltage resets (See Datasheet)", 12 GND (power) "Device Ground.", 13 NC, 14 AOUT (oc) "Amplifier Output. Open collector output of the auxiliary amplifier. It is capable of sinking up to 2mA from 80V. The negative input of the amplifier is internally connected to a 1.25V reference.", 15 NC, 16 IN+ (in) "Positive Input of the Auxiliary Amplifier. This amplifier can be used as a level detection comparator with external hysteresis or linear regulator controlling an external PNP transistor. This pin is clamped internally to 7V. (See Datasheet)"

## LT4356MPS-2
designator U?
Surge Stopper, 4 to 80 V Vin, 16-pin SOP (S-16), -55 to 125 degC; Manufacturer: Linear Technology; PartNumber: LT4356MPS-2; Active Limiting: yes; Circuit Breaker Accuracy(%): 15; Circuit Breaker Threshold: 50 mV; Circuit Breakers(#): 1; Extended Temp: MP; Fast Comparator: no; In-Rush Current: Ramp; Vin Range: 4 to 80 V; DatasheetVersion: Rev. B; PackageVersion: Rev. G, 05/2012; PackageReference: S-16; PackageDescription: 16-Pin Plastic Small Outline, Body 9.9 x 3.9 mm, Pitch 1.27 mm; Foldback: yes; Power Good: no; Reset: no; RoHS: FALSE; Mounting Technology: Surface Mount; ComponentLink1Description: Manufacturer URL; ComponentLink1URL: http://www.linear.com/; ComponentLink2Description: Datasheet; ComponentLink2URL: http://cds.linear.com/docs/en/datasheet/4356mp12fb.pdf; ComponentLink3Description: Package Specification; ComponentLink3URL: http://cds.linear.com/docs/en/packaging/S16%2005-08-1610%20Rev%20G.pdf
footprint LT-S-16_N (SOP, 16-Leads, Body 10x4mm, Pitch 1.27mm, IPC Medium Density)
footprint LT-S-16_L (SOP, 16-Leads, Body 10x4mm, Pitch 1.27mm, IPC High Density)
footprint LT-S-16_M (SOP, 16-Leads, Body 10x4mm, Pitch 1.27mm, IPC Low Density)
pins: 1 TMR (in) "Fault Timer Input. Connect a capacitor between this pin and ground to set the times for early warning, fault and cooldown periods. The current charging up this pin during fault conditions depends on the voltage difference (See Datasheet)", 2 FB (in) "Voltage Regulator Feedback Input. Connect this pin to the center tap of the output resistive divider connected between the OUT pin and ground. During an overvoltage condition, the GATE pin is servoed to maintain a 1.25V (See Datasheet)", 3 NC, 4 OUT (in) "Output Voltage Sense Input. This pin senses the voltage at the source of the N-channel MOSFET and sets the fault timer current. When the OUT pin voltage reaches 0.7V away from VCC, the EN pin goes high impedance.", 5 GATE (out) "N-channel MOSFET Gate Drive Output. The GATE pin is pulled up by an internal charge pump current source and clamped to 14V above the OUT pin. Both voltage and current amplifiers control the GATE pin to regulate the output (See Datasheet)", 6 NC, 7 SNS (in) "Current Sense Input. Connect this pin to the output of the current sense resistor. The current limit circuit controls the GATE pin to limit the sense voltage between VCC and SNS pins to 50mV. At the same time the sense (See Datasheet)", 8 VCC (power) "Positive Supply Voltage Input. The positive supply input ranges from 4V to 80V for normal operation. It can also be pulled below ground potential by up to 60V during a reverse battery condition, without damaging the part. (See Datasheet)", 9 ~{SHDN} (in) "Shutdown Control Input. The LT4356 can be shut down to a low current mode by pulling the S\H\D\N\ pin below 0.4V. Pull this pin above 2.1V or disconnect it and allow the internal current source to turn the part back on. The (See Datasheet)", 10 ~{FLT} (hiz) "Open-Collector Fault Output. This pin pulls low after the voltage at the TMR pin has reached the fault threshold of 1.25V. It indicates the pass transistor is about to turn off because either the supply voltage has stayed at (See Datasheet)", 11 EN (hiz) "Open-Collector Enable Output. The EN pin goes high impedance when the voltage at the OUT pin is above (VCC - 0.7V), indicating the external MOSFET is fully on. The state of the pin is latched until the OUT pin voltage resets (See Datasheet)", 12 GND (power) "Device Ground.", 13 NC, 14 AOUT (oc) "Amplifier Output. Open collector output of the auxiliary amplifier. It is capable of sinking up to 2mA from 80V. The negative input of the amplifier is internally connected to a 1.25V reference.", 15 NC, 16 IN+ (in) "Positive Input of the Auxiliary Amplifier. This amplifier can be used as a level detection comparator with external hysteresis or linear regulator controlling an external PNP transistor. This pin is clamped internally to 7V. (See Datasheet)"